# EAGLE library part L6206 (library MRDT-EAGLE-Training)
DUAL DMOS FULL BRIDGE MOTOR DRIVER
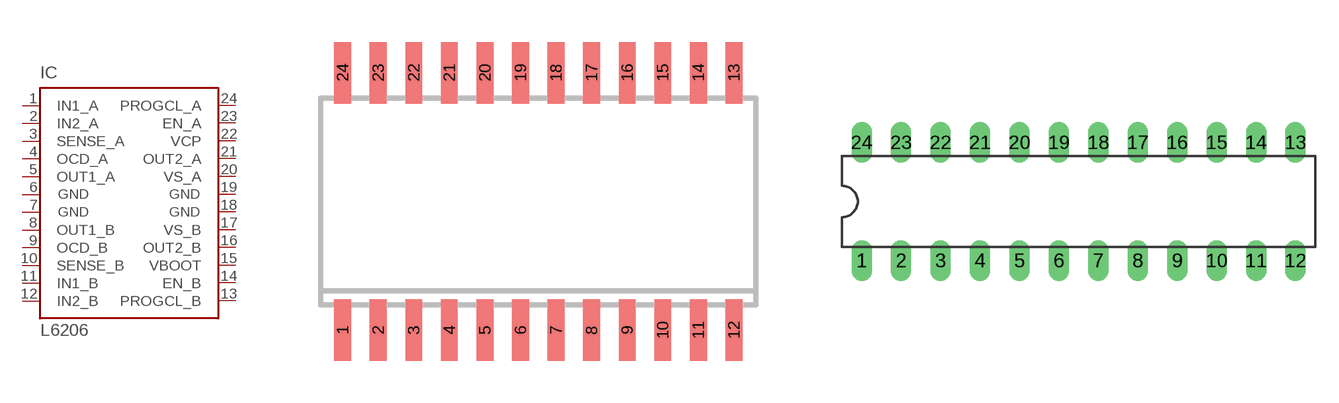
[diagram p0: symbol with the pads of SO24; footprints SO24, POWERDIP24]

Designator prefix IC

## L6206D  [SO24]
1  IN1_A  in
2  IN2_A  in
3  SENSE_A  in
4  OCD_A  out
5  OUT1_A  out
6  GND  pwr
7  GND  pwr
8  OUT1_B  out
9  OCD_B  out
10  SENSE_B  in
11  IN1_B  in
12  IN2_B  in
13  PROGCL_B  in
14  EN_B  in
15  VBOOT  in
16  OUT2_B  out
17  VS_B  in
18  GND  pwr
19  GND  pwr
20  VS_A  in
21  OUT2_A  out
22  VCP  in
23  EN_A  in
24  PROGCL_A  in

## L6206N  [POWERDIP24]
Pads as for SO24

## L6206  [POWERSO36]
1  GND  pwr
4  VCP  in
5  OUT2_A  out
7  IN1_A  in
8  IN2_B  in
9  VBOOT  in
10  PROGCL_A  in
11  OCD_A  out
12  SENSE_A  in
13  EN_A  in
15  OUT1_A  out
18  GND  pwr
19  GND  pwr
22  OUT1_B  out
24  VS_A  in
25  SENSE_B  in
26  PROGCL_B  in
27  IN1_B  in
28  EN_B  in
29  OCD_B  out
30  IN2_A  in
32  OUT2_B  out
33  VS_B  in
36  GND  pwr

## Footprint SO24 (pad centres in mm)
SMALL OUTLINE INTEGRATED CIRCUIT wide body 7.5 mm/JEDEC MO-119AA
smd 0.6 x 2.2: 1 -6.985,-4.6; 2 -5.715,-4.6; 3 -4.445,-4.6; 4 -3.175,-4.6; 5 -1.905,-4.6; 6 -0.635,-4.6; 7 0.635,-4.6; 8 1.905,-4.6; 9 3.175,-4.6; 10 4.445,-4.6; 11 5.715,-4.6; 12 6.985,-4.6; 13 6.985,4.6; 14 5.715,4.6; 15 4.445,4.6; 16 3.175,4.6; 17 1.905,4.6; 18 0.635,4.6; 19 -0.635,4.6; 20 -1.905,4.6; 21 -3.175,4.6; 22 -4.445,4.6; 23 -5.715,4.6; 24 -6.985,4.6

## Footprint POWERDIP24 (pad centres in mm)
Dual In Line Package Small
drill 0.813 long: 1 -13.97,-3.81; 2 -11.43,-3.81; 3 -8.89,-3.81; 4 -6.35,-3.81; 5 -3.81,-3.81; 6 -1.27,-3.81; 7 1.27,-3.81; 8 3.81,-3.81; 9 6.35,-3.81; 10 8.89,-3.81; 11 11.43,-3.81; 12 13.97,-3.81; 13 13.97,3.81; 14 11.43,3.81; 15 8.89,3.81; 16 6.35,3.81; 17 3.81,3.81; 18 1.27,3.81; 19 -1.27,3.81; 20 -3.81,3.81; 21 -6.35,3.81; 22 -8.89,3.81; 23 -11.43,3.81; 24 -13.97,3.81

## Footprint POWERSO36 (pad centres in mm)
36 LEADS POWER SMALL OUTLINE PACKAGE Source: http://www.st.com/stonline/books/pdf/docs/9426.pdf
smd 0.4 x 1.4: 1 -5.525,-6.7; 2 -4.875,-6.7; 3 -4.225,-6.7; 4 -3.575,-6.7; 5 -2.925,-6.7; 6 -2.275,-6.7; 7 -1.625,-6.7; 8 -0.975,-6.7; 9 -0.325,-6.7; 10 0.325,-6.7; 11 0.975,-6.7; 12 1.625,-6.7; 13 2.275,-6.7; 14 2.925,-6.7; 15 3.575,-6.7; 16 4.225,-6.7; 17 4.875,-6.7; 18 5.525,-6.7; 19 5.525,6.7; 20 4.875,6.7; 21 4.225,6.7; 22 3.575,6.7; 23 2.925,6.7; 24 2.275,6.7; 25 1.625,6.7; 26 0.975,6.7; 27 0.325,6.7; 28 -0.325,6.7; 29 -0.975,6.7; 30 -1.625,6.7; 31 -2.275,6.7; 32 -2.925,6.7; 33 -3.575,6.7; 34 -4.225,6.7; 35 -4.875,6.7; 36 -5.525,6.7
smd 9.8 x 6.2: M@1 0,0
smd 3.1 x 2.9: M@2 -6.45,0; M@3 6.45,0